# Altium footprint library misc.PcbLib: 32 footprints (part 1 of 2)
Each footprint in its own frame and in the unit in brackets; x right, y up, seen from the top. Pads: shape width x height; smd on the part's side, far side on the other; paste and mask are expansions set on the pad; w line width, h text height; cw(c..) or ccw(c..) is an arc to the next point about the centre after c.
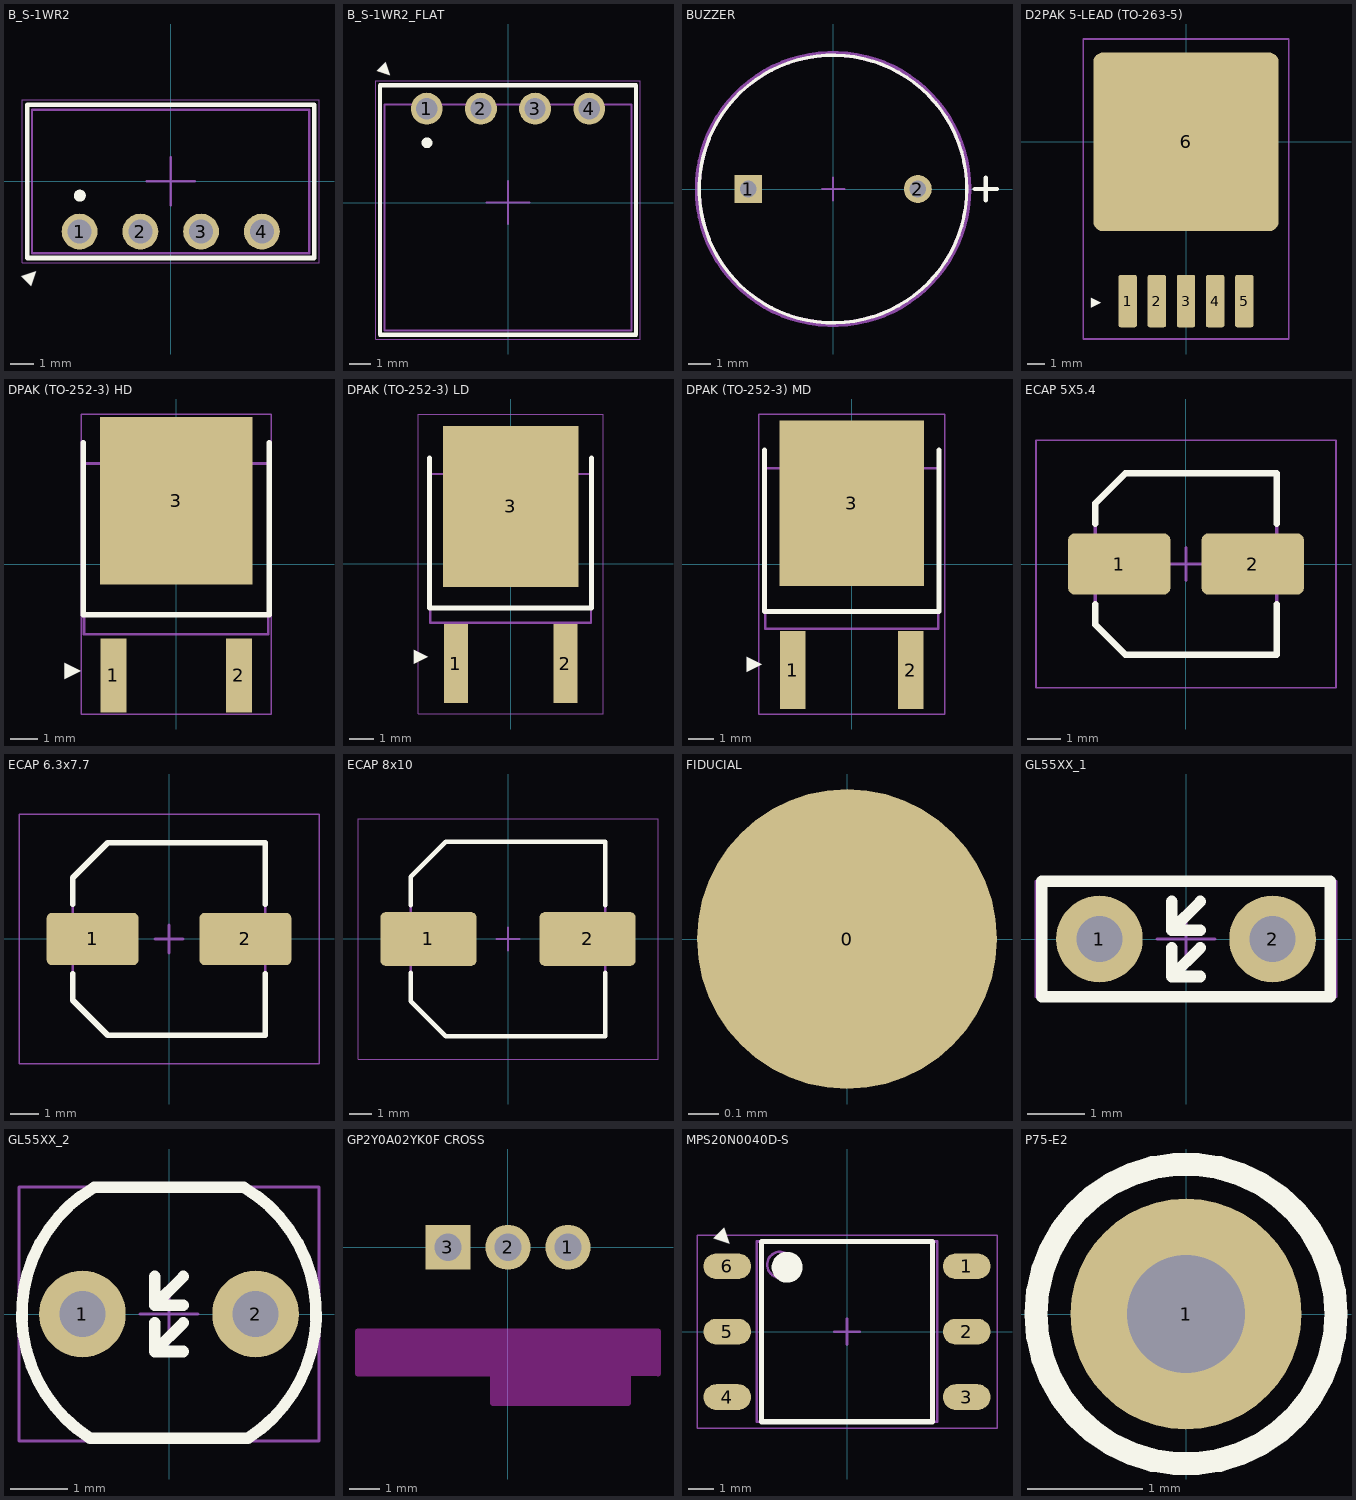
[diagram p0: the footprints below, top view; thin cyan lines are the x and y axes]

## B_S-1WR2 [mm]
pads (4):
  round 1.5 hole 1 mask+0.05: 1(-3.81,-2.1) 2(-1.27,-2.1) 3(1.27,-2.1) 4(3.81,-2.1)
Top Overlay:
  circle w0.25: c-3.8,-0.6 r0.125
  lines w0.2: -6,-3.2 -6,3.2 6,3.2 6,-3.2 -6,-3.2
  text "▲" at -6.342,-4.042 h1
Top Assembly:
  lines w0.1: -5.8,-3 5.8,-3 5.8,3 -5.8,3 -5.8,-3
Top Courtyard:
  lines w0.05: -6.2,-3.4 -6.2,3.4 6.2,3.4 6.2,-3.4 -6.2,-3.4
Top Component Center:
  lines w0.1: -1,0 1,0 ; 0,-1 0,1
3D body "DC_DC_ISO_B_S_1W.stp": height 4.1, standoff -10, extent -5.8,-3 5.8,3

## B_S-1WR2_FLAT [mm]
pads (4):
  round 1.5 hole 1 mask+0.05: 1(-3.81,4.4) 2(-1.27,4.4) 3(1.27,4.4) 4(3.81,4.4)
Top Overlay:
  circle w0.25: c-3.8,2.8 r0.125
  lines w0.2: -6,-6.2 -6,5.5 6,5.5 6,-6.2 -6,-6.2
  text "▲" at -5.793,6.668 h1
Top Assembly:
  lines w0.1: -5.8,-6 -5.8,4.6 5.8,4.6 5.8,-6 -5.8,-6
Top Courtyard:
  lines w0.05: -6.2,-6.4 -6.2,5.7 6.2,5.7 6.2,-6.4 -6.2,-6.4
Top Component Center:
  lines w0.1: -1,0 1,0 ; 0,-1 0,1
3D body "BxxxxS-01_Angle.step": height 6, standoff -1.93, extent -5.8,-6.019 5.8,4.6

## BUZZER [mm]
pads (2):
  rect 1.25x1.25 hole 0.75 paste-2539.97 mask+0.05: 1(-3.8,0)
  round 1.25 hole 0.75 paste-2539.97 mask+0.05: 2(3.8,0)
Top Overlay:
  circle w0.15: c0,0 r6
  lines w0.2: 6.35,0 7.35,0 ; 6.85,-0.5 6.85,0.5
Top Assembly:
  circle w0.15: c0,0 r6
Top Courtyard:
  lines w0.2: -6.1,0 cw(c0,0) 6.1,0 cw(c0,0) -6.1,0
Top Component Center:
  lines w0.1: -0.5,0 0.5,0 ; 0,-0.5 0,0.5
3D body "Speak_Multicomp_Pro_MCKPX-G1203A-K4056_eec.STEP": height 0.25, standoff 0, extent -6.1,-6.1 6.1,6.1

## D2PAK 5-LEAD (TO-263-5) [mm]
pads (6):
  rrect20% 1.07x3.05 smd mask+0.05: 1(-3.4,-9.29) 2(-1.7,-9.29) 3(0,-9.29) 4(1.7,-9.29) 5(3.4,-9.29)
  rrect10% 10.8x10.41 smd mask+0.05: 6(0,0)
Top Overlay:
  text "▲" at -5.648,-9.083 h1
Top Courtyard:
  lines w0.1: -6,-11.5 -6,6 6,6 6,-11.5 -6,-11.5
Top Component Center:
  lines w0.1: -0.5,0 0.5,0 ; 0,-0.5 0,0.5
3D body "TO263-5-1.stp": height 4.22, standoff 0, extent -4.911,-10.061 4.911,4.541

## DPAK (TO-252-3) HD [mm] "D-PAK, 3-Pads, Body 6,20x6,71mm (max), IPC High Density"
height 2.39
pads (3):
  rect 0.95x2.7 smd mask+0.05: 1(-2.28,-4.05) 2(2.28,-4.05)
  rect 5.55x6.1 smd mask+0.05: 3(0,2.3)
Top Overlay:
  lines w0.2: -3.376,4.414 -3.376,-1.839 3.376,-1.839 3.376,4.414
  text "▲" at -4.148,-3.583 h1
Top Assembly:
  lines w0.1: -3.35,-2.55 -3.35,3.65 3.35,3.65 3.35,-2.55 -3.35,-2.55
Top Courtyard:
  lines w0.05: -3.45,-5.45 -3.45,5.45 3.45,5.45 3.45,-5.45 -3.45,-5.45
Top Component Center:
  lines w0.1: -0.5,0 0.5,0 ; 0,-0.5 0,0.5
3D body "DPAK (TO-252-3) HD.step": height 2.39, standoff 0, extent -3.35,-4.67 3.35,5.235

## DPAK (TO-252-3) LD [mm] "D-PAK, 3-Pads, Body 6,20x6,71mm (max), IPC Low Density"
height 2.39
pads (3):
  rect 1x3.3 smd mask+0.05: 1(-2.28,-4.15) 2(2.28,-4.15)
  rect 5.65x6.7 smd mask+0.05: 3(0,2.4)
Top Overlay:
  lines w0.2: -3.376,4.414 -3.376,-1.839 3.376,-1.839 3.376,4.414
  text "▲" at -4.148,-3.583 h1
Top Assembly:
  lines w0.1: -3.35,-2.45 -3.35,3.75 3.35,3.75 3.35,-2.45 -3.35,-2.45
Top Courtyard:
  lines w0.05: -3.85,-6.25 3.85,-6.25 3.85,6.25 -3.85,6.25 -3.85,-6.25
Top Component Center:
  lines w0.1: -0.5,0 0.5,0 ; 0,-0.5 0,0.5
3D body "DPAK (TO-252-3) LD.step": height 2.39, standoff 0, extent -3.35,-4.52 3.35,5.385

## DPAK (TO-252-3) MD [mm] "D-PAK, 3-Pads, Body 6,20x6,71mm (max), IPC Medium Density"
height 2.39
pads (3):
  rect 1x3 smd mask+0.05: 1(-2.28,-4.1) 2(2.28,-4.1)
  rect 5.6x6.4 smd mask+0.05: 3(0,2.35)
Top Overlay:
  lines w0.2: -3.376,4.414 -3.376,-1.839 3.376,-1.839 3.376,4.414
  text "▲" at -4.148,-3.583 h1
Top Assembly:
  lines w0.1: -3.35,-2.5 -3.35,3.7 3.35,3.7 3.35,-2.5 -3.35,-2.5
Top Courtyard:
  lines w0.05: -3.6,-5.8 -3.6,5.8 3.6,5.8 3.6,-5.8 -3.6,-5.8
Top Component Center:
  lines w0.1: -0.5,0 0.5,0 ; 0,-0.5 0,0.5
3D body "DPAK (TO252-3).step": height 2.39, standoff 0, extent -3.35,-4.57 3.35,5.335

## ECAP 5X5.4 [mm] "Aluminum Electrolytic Capacitor, Body 5,30x5,30x5,50mm, IPC Low Density"
height 5.5
pads (2):
  rrect20% 3.1x1.85 smd mask+0.05: 1(-2.025,0) 2(2.025,0)
Top Overlay:
  lines w0.2: -2.75,-1.225 -2.75,-1.837 -1.837,-2.75 2.75,-2.75 2.75,-1.225 ; -2.75,1.225 -2.75,1.837 -1.837,2.75 2.75,2.75 2.75,1.225
Top Assembly:
  lines w0.1: -2.75,-1.837 -2.75,1.837 -1.837,2.75 2.75,2.75 2.75,-2.75 -1.837,-2.75 -2.75,-1.837
Top Courtyard:
  lines w0.05: -4.55,-3.75 4.55,-3.75 4.55,3.75 -4.55,3.75 -4.55,-3.75
Top Component Center:
  lines w0.1: -0.5,0 0.5,0 ; 0,-0.5 0,0.5
3D body "ECAP 5X5.4.step": height 5.5, standoff 0, extent -2.75,-2.75 2.75,2.75

## ECAP 6.3x7.7 [mm] "Aluminum Electrolytic Capacitor, Body 6,60x6,60x8,50mm, IPC Low Density"
height 8.5
pads (2):
  rrect20% 3.25x1.85 smd: 1(-2.7,0) 2(2.7,0)
Top Overlay:
  lines w0.2: -3.4,-1.225 -3.4,-2.163 -2.163,-3.4 3.4,-3.4 3.4,-1.225 ; -3.4,1.225 -3.4,2.163 -2.163,3.4 3.4,3.4 3.4,1.225
Top Assembly:
  lines w0.1: -3.4,-2.163 -3.4,2.163 -2.163,3.4 3.4,3.4 3.4,-3.4 -2.163,-3.4 -3.4,-2.163
Top Courtyard:
  lines w0.05: -5.3,-4.4 5.3,-4.4 5.3,4.4 -5.3,4.4 -5.3,-4.4
Top Component Center:
  lines w0.1: -0.5,0 0.5,0 ; 0,-0.5 0,0.5
3D body "ECAP 6.3x7.7.step": height 8.5, standoff 0, extent -3.5,-3.4 3.5,3.4

## ECAP 8x10 [mm] "Aluminum Electrolytic Capacitor, Body 8,30x8,30x10,80mm, IPC Low Density"
height 10.8
pads (2):
  rrect20% 4.2x2.35 smd mask+0.05: 1(-3.475,0) 2(3.475,0)
Top Overlay:
  lines w0.2: -4.25,-1.475 -4.25,-2.713 -2.712,-4.25 4.25,-4.25 4.25,-1.475 ; -4.25,1.475 -4.25,2.712 -2.712,4.25 4.25,4.25 4.25,1.475
Top Assembly:
  lines w0.1: -4.25,-2.713 -4.25,2.712 -2.712,4.25 4.25,4.25 4.25,-4.25 -2.712,-4.25 -4.25,-2.713
Top Courtyard:
  lines w0.05: -6.55,-5.25 6.55,-5.25 6.55,5.25 -6.55,5.25 -6.55,-5.25
Top Component Center:
  lines w0.1: -0.5,0 0.5,0 ; 0,-0.5 0,0.5
3D body "ECAP 8x10.step": height 10.8, standoff 0, extent -4.45,-4.25 4.45,4.25

## FIDUCIAL [mm]
pads (1):
  round 1 smd mask+0.5: 0(0,0)

## GL55XX_1 [mm] "Photoresistor 3mm pitch"
height 8.54
pads (2):
  round 1.5 hole 0.8 mask+0.05: 1(-1.5,0) 2(1.5,0)
Top Overlay:
  lines w0.2: -0.25,-0.15 -0.25,-0.65 ; -0.25,0.65 -0.25,0.15 ; 0.25,-0.65 -0.25,-0.65 ; 0.25,-0.15 -0.25,-0.65 ; 0.25,0.15 -0.25,0.15 ; 0.25,0.65 -0.25,0.15 ; -2.5,-1 -2.5,1 2.5,1 2.5,-1 -2.5,-1
Top Assembly:
  lines w0.1: -2.5,-1 2.5,-1 2.5,1 -2.5,1 -2.5,-1
Top Courtyard:
  lines w0.05: -2.6,-1 2.6,-1 2.6,1 -2.6,1 -2.6,-1
Top Component Center:
  lines w0.05: -0.5,0 0.5,0 ; 0,-0.5 0,0.5

## GL55XX_2 [mm] "Photoresistor 3mm pitch"
height 8.54
pads (2):
  round 1.5 hole 0.8 mask+0.05: 1(-1.5,0) 2(1.5,0)
Top Overlay:
  lines w0.2: -0.25,-0.15 -0.25,-0.65 ; -0.25,0.65 -0.25,0.15 ; 0.25,-0.65 -0.25,-0.65 ; 0.25,-0.15 -0.25,-0.65 ; 0.25,0.15 -0.25,0.15 ; 0.25,0.65 -0.25,0.15 ; -1.369,-2.151 cw(c0,0) -1.297,2.195 1.297,2.195 cw(c0,0) 1.369,-2.151 -1.369,-2.151
Top Assembly:
  lines w0.1: -1.369,-2.151 cw(c0,0) -1.297,2.195 1.297,2.195 cw(c0,0) 1.369,-2.151 -1.369,-2.151
Top Courtyard:
  lines w0.05: -2.6,-2.2 2.6,-2.2 2.6,2.2 -2.6,2.2 -2.6,-2.2
Top Component Center:
  lines w0.05: -0.5,0 0.5,0 ; 0,-0.5 0,0.5

## GP2Y0A02YK0F CROSS [mm]
pads (3):
  round 1.5 hole 0.9 mask+0.05: 1(2,0) 2(0,0)
  rect 1.5x1.5 hole 0.9 mask+0.05: 3(-2,0)
Keep-Out Layer:
  board cut-out: -5,-4.2 5,-4.2 5,-2.8 -5,-2.8
  board cut-out: -0.5,-5.2 4,-5.2 4,-4.2 -0.5,-4.2
Keep-Out Layer:
  lines w0.2: 5,-4.2 5,-2.8 -5,-2.8 -5,-4.2 -0.5,-4.2 -0.5,-5.2 4,-5.2 4,-4.2 5,-4.2 ; 5,-4.2 5,-4.2
3D body "GP2Y0A02YK0F SHARP.SLDPRT": height 15.5, standoff -3.4, extent -22.25,-7 22.25,14.6

## MPS20N0040D-S [mm]
height 9.5
pads (6):
  oval 1.85x1 smd mask+0.05: 1(4.65,2.54) 2(4.65,0) 3(4.65,-2.54) 4(-4.65,-2.54) 5(-4.65,0) 6(-4.65,2.54)
Top Overlay:
  circle w0.6: c-2.325,2.5 r0.3
  lines w0.2: -3.325,-3.5 -3.325,3.5 3.325,3.5 3.325,-3.5 -3.325,-3.5
  text "▲" at -4.831,4.121 h1
Top Assembly:
  circle w0.1: c-2.6,2.6 r0.5
  lines w0.1: -3.5,-3.5 -3.5,3.5 3.5,3.5 3.5,-3.5 -3.5,-3.5
Top Courtyard:
  lines w0.05: -5.825,-3.75 -5.825,3.75 5.825,3.75 5.825,-3.75 -5.825,-3.75
Top Component Center:
  lines w0.1: -0.5,0 0.5,0 ; 0,-0.5 0,0.5
3D body "MPS20N0040D-D.STEP": height 12.95, standoff -0.68, extent -5.399,-4.15 5.399,4.15

## P75-E2 [mm] "1.3 mm Pogo pin"
pads (1):
  round 2 hole 1.02 mask+0.05: 1(0,0)
Top Overlay:
  circle w0.2: c0,0 r1.3
Top Assembly:
  circle w0.1: c0,0 r1.3
Top Courtyard:
  circle w0.1: c0,0 r1.3
3D body "Pogo_pin_P75-E2.stp": height 10, standoff -6.44, extent -0.65,-0.65 0.65,0.65